# Altium footprint library linear.PCBLIB: 119 footprints (part 2 of 8)
Each footprint in its own frame and in the unit in brackets; x right, y up, seen from the top. Pads: shape width x height; smd on the part's side, far side on the other; paste and mask are expansions set on the pad; w line width, h text height; cw(c..) or ccw(c..) is an arc to the next point about the centre after c.
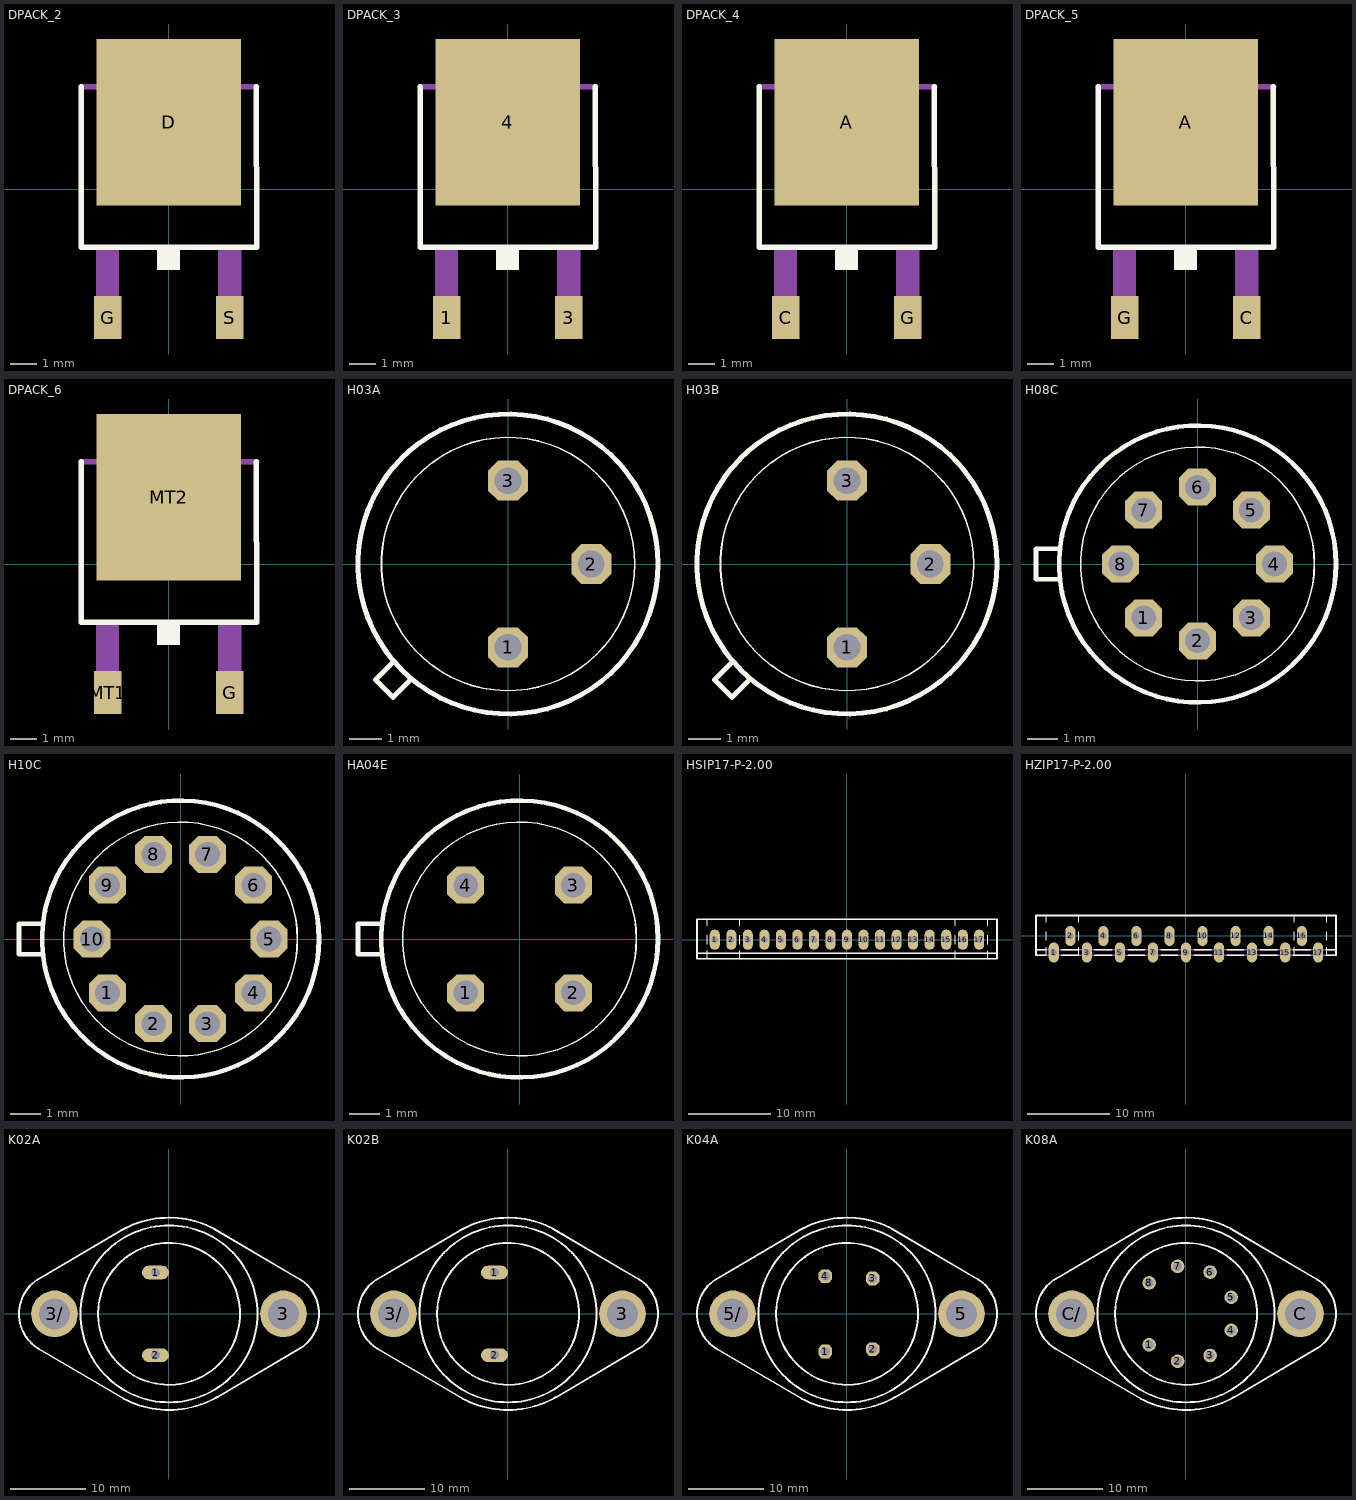
[diagram p1: the footprints below, top view; thin cyan lines are the x and y axes]

## DPACK_2 [mil]
pads (3):
  rect 213x245 smd: D(0,99)
  rect 40x63 smd: G(-89.76,-188.98) S(90,-188.98)
Top Overlay:
  rectangle: -17,-119 17,-89
  lines w8: -129,151 -129.02,-85 130,-85 129,151
Mechanical 16:
  rectangle: -107,-203 -73,-89
  rectangle: 73,-203 107,-89
  region: 0,0 10,0 10,10 0,10
  lines w8: -129.02,151 130,151 ; -101,155 -101,183 -83,201 83,201 101,183 101,155 -101,155

## DPACK_3 [mil]
pads (3):
  rect 40x63 smd: 1(-89.76,-188.98) 3(90,-188.98)
  rect 213x245 smd: 4(0,99)
Top Overlay:
  rectangle: -17,-119 17,-89
  lines w8: -129,151 -129.02,-85 130,-85 129,151
Mechanical 16:
  rectangle: -107,-203 -73,-89
  rectangle: 73,-203 107,-89
  region: 0,0 10,0 10,10 0,10
  lines w8: -129.02,151 130,151 ; -101,155 -101,183 -83,201 83,201 101,183 101,155 -101,155

## DPACK_4 [mil]
pads (3):
  rect 213x245 smd: A(0,99)
  rect 40x63 smd: C(-89.76,-188.98) G(90,-188.98)
Top Overlay:
  rectangle: -17,-119 17,-89
  lines w8: -129,151 -129.02,-85 130,-85 129,151
Mechanical 16:
  rectangle: -107,-203 -73,-89
  rectangle: 73,-203 107,-89
  region: 0,0 10,0 10,10 0,10
  lines w8: -129.02,151 130,151 ; -101,155 -101,183 -83,201 83,201 101,183 101,155 -101,155

## DPACK_5 [mil]
pads (3):
  rect 213x245 smd: A(0,99)
  rect 40x63 smd: C(90,-188.98) G(-89.76,-188.98)
Top Overlay:
  rectangle: -17,-119 17,-89
  lines w8: -129,151 -129.02,-85 130,-85 129,151
Mechanical 16:
  rectangle: -107,-203 -73,-89
  rectangle: 73,-203 107,-89
  region: 0,0 10,0 10,10 0,10
  lines w8: -129.02,151 130,151 ; -101,155 -101,183 -83,201 83,201 101,183 101,155 -101,155

## DPACK_6 [mil]
pads (3):
  rect 40x63 smd: G(90,-188.98) MT1(-89.76,-188.98)
  rect 213x245 smd: MT2(0,99)
Top Overlay:
  rectangle: -17,-119 17,-89
  lines w8: -129,151 -129.02,-85 130,-85 129,151
Mechanical 16:
  rectangle: -107,-203 -73,-89
  rectangle: 73,-203 107,-89
  region: 0,0 10,0 10,10 0,10
  lines w8: -129.02,151 130,151 ; -101,155 -101,183 -83,201 83,201 101,183 101,155 -101,155

## H03A [mil]
pads (3):
  oct 48x48 hole 32: 1(0,-100) 2(100,0) 3(0,100)
Top Overlay:
  circle w6: c0,0 r180
  circle w2: c0,0 r152
  lines w6: -138,-118 -159,-139 -138,-160 -117,-139

## H03B [mil]
pads (3):
  oct 48x48 hole 32: 1(0,-100) 2(100,0) 3(0,100)
Top Overlay:
  circle w6: c0,0 r180
  circle w2: c0,0 r152
  lines w6: -138,-118 -159,-139 -138,-160 -117,-139

## H08C [mil]
pads (8):
  oct 48x48 hole 32: 1(-70,-70) 2(0,-100) 3(70,-70) 4(100,0) 5(70,70) 6(0,100) 7(-70,70) 8(-100,0)
Top Overlay:
  circle w6: c0,0 r180
  circle w2: c0,0 r152
  lines w6: -180,-20 -210,-20 -210,20 -180,20

## H10C [mil]
pads (10):
  oct 48x48 hole 32: 1(-95,-70) 2(-35,-110) 3(35,-110) 4(95,-70) 5(115,0) 6(95,70) 7(35,110) 8(-35,110) 9(-95,70) 10(-115,0)
Top Overlay:
  circle w6: c0,0 r180
  circle w2: c0,0 r152
  lines w6: -180,-20 -210,-20 -210,20 -180,20

## HA04E [mil]
pads (4):
  oct 48x48 hole 32: 1(-70,-70) 2(70,-70) 3(70,70) 4(-70,70)
Top Overlay:
  circle w6: c0,0 r180
  circle w2: c0,0 r152
  lines w6: -180,-20 -210,-20 -210,20 -180,20

## HSIP17-P-2.00 [mil]
pads (17):
  oval 48x96 hole 32: 1(-629.92,0) 2(-551.18,0) 3(-472.44,0) 4(-393.7,0) 5(-314.96,0) 6(-236.22,0) 7(-157.48,0) 8(-78.74,0) 9(0,0) 10(79,0) 11(158,0) 12(237,0) 13(315,0) 14(394,0) 15(473,0) 16(552,0) 17(630,0)
Top Overlay:
  lines w4: -667.32,-88.58 -667.32,-53.15 ; -667.32,-20.67 -667.32,21 ; -667.32,66 -667.32,94 ; -513.78,-88.58 -513.78,-53.15 ; -513.78,-20.67 -513.78,21 ; -513.78,66 -513.78,94 ; 514,-88.58 514,-53.15 ; 514,-20.67 514,21 ; 514,66 514,94 ; 668,-88.58 668,-53.15 ; 668,-20.67 668,21 ; 668,66 668,94
  lines w8: -714.57,-64.96 -714.57,-91.54 715,-91.54 715,-64.96 ; -714.57,-64.96 -714.57,98 715,98 715,-64.96 ; -714.57,-64.96 715,-64.96

## HZIP17-P-2.00 [mil]
pads (17):
  oval 48x96 hole 32: 1(-629.92,-78.74) 2(-551.18,0) 3(-472.44,-78.74) 4(-393.7,0) 5(-314.96,-78.74) 6(-236.22,0) 7(-157.48,-78.74) 8(-78.74,0) 9(0,-78.74) 10(79,0) 11(158,-78.74) 12(237,0) 13(315,-78.74) 14(394,0) 15(473,-78.74) 16(552,0) 17(630,-78.74)
Top Overlay:
  lines w4: -667.32,-88.58 -667.32,-53.15 ; -667.32,-20.67 -667.32,21 ; -667.32,66 -667.32,94 ; -513.78,-88.58 -513.78,-53.15 ; -513.78,-20.67 -513.78,21 ; -513.78,66 -513.78,94 ; 514,-88.58 514,-53.15 ; 514,-20.67 514,21 ; 514,66 514,94 ; 668,-88.58 668,-53.15 ; 668,-20.67 668,21 ; 668,66 668,94
  lines w8: -669.29,-91.54 -714.57,-91.54 -714.57,-64.96 ; -669.29,-64.96 -714.57,-64.96 ; -590.55,-91.54 -511.81,-91.54 ; -590.55,-64.96 -511.81,-64.96 ; -433.07,-91.54 -354.33,-91.54 ; -433.07,-64.96 -354.33,-64.96 ; -275.59,-91.54 -196.85,-91.54 ; -275.59,-64.96 -196.85,-64.96 ; -118.11,-91.54 -39.37,-91.54 ; -118.11,-64.96 -39.37,-64.96 ; 40,-91.54 119,-91.54 ; 40,-64.96 119,-64.96 ; 197,-91.54 276,-91.54 ; 197,-64.96 276,-64.96 ; 355,-91.54 434,-91.54 ; 355,-64.96 434,-64.96 ; 512,-91.54 591,-91.54 ; 512,-64.96 591,-64.96 ; 670,-91.54 715,-91.54 715,-64.96 ; 670,-64.96 715,-64.96 ; -714.57,-64.96 -714.57,98 715,98 715,-64.96
Mechanical 16:
  lines w8: -714.57,-91.54 715,-91.54 ; -714.57,-64.96 715,-64.96

## K02A [mil]
pads (4):
  oval 141x70.5 hole 47: 1(-70,215) 2(-70,-215)
  round 243 hole 162: 3(595,0) 3/(-595,0)
Top Overlay:
  circle w10: c0,0 r369
  circle w10: c0,0 r460
  lines w10: -680,180 -250,433 ; -679,-181 -234,-442 ; -675.41,-183.35 cw(c-567,0) -780,0 cw(c-566.81,0.11) -672.94,185 ; -250.86,433 cw(c-0.9,0.24) 0,500 cw(c2,-1) 236,442 ; -235.3,-441.18 ccw(c0,0) 0,-500 ccw(c0.07,0.26) 251,-432.52 ; 235,441 684,178 ; 251,-433 684,-178 ; 683,-178.94 ccw(c567.23,-0.42) 780,0 ccw(c567.17,0.45) 683,179
Mechanical 16:
  circle w10: c595,0 r85
  circle w10: c-595,0 r85

## K02B [mil]
pads (4):
  oval 141x70.5 hole 47: 1(-70,215) 2(-70,-215)
  round 243 hole 162: 3(595,0) 3/(-595,0)
Top Overlay:
  circle w10: c0,0 r369
  circle w10: c0,0 r460
  lines w10: -680,180 -250,433 ; -679,-181 -234,-442 ; -675.41,-183.35 cw(c-567,0) -780,0 cw(c-566.81,0.11) -672.94,185 ; -250.86,433 cw(c-0.9,0.24) 0,500 cw(c2,-1) 236,442 ; -235.3,-441.18 ccw(c0,0) 0,-500 ccw(c0.07,0.26) 251,-432.52 ; 235,441 684,178 ; 251,-433 684,-178 ; 683,-178.94 ccw(c567.23,-0.42) 780,0 ccw(c567.17,0.45) 683,179
Mechanical 16:
  circle w10: c595,0 r85
  circle w10: c-595,0 r85

## K04A [mil]
pads (6):
  oct 70.5x70.5 hole 47: 1(-113.17,-195.75) 2(133,-183) 3(133,184) 4(-113.17,196)
  round 243 hole 162: 5(595,0) 5/(-595,0)
Top Overlay:
  circle w10: c0,0 r369
  circle w10: c0,0 r460
  lines w10: -680,180 -250,433 ; -679,-181 -234,-442 ; -675.41,-183.35 cw(c-567,0) -780,0 cw(c-566.81,0.11) -672.94,185 ; -250.86,433 cw(c-0.9,0.24) 0,500 cw(c2,-1) 236,442 ; -235.3,-441.18 ccw(c0,0) 0,-500 ccw(c0.07,0.26) 251,-432.52 ; 235,441 684,178 ; 251,-433 684,-178 ; 683,-178.94 ccw(c567.23,-0.42) 780,0 ccw(c567.17,0.45) 683,179
Mechanical 16:
  circle w10: c595,0 r85
  circle w10: c-595,0 r85

## K08A [mil]
pads (10):
  round 70.5 hole 47: 1(-191.51,-160.7) 2(-43.41,-246.2) 3(125,-216.51) 4(235,-85.5) 5(235,86) 6(125,217) 7(-43.41,247) 8(-191.51,161)
  round 243 hole 162: C(595,0) C/(-595,0)
Top Overlay:
  circle w10: c0,0 r369
  circle w10: c0,0 r460
  lines w10: -680,180 -250,433 ; -679,-181 -234,-442 ; -675.41,-183.35 cw(c-567,0) -780,0 cw(c-566.81,0.11) -672.94,185 ; -250.86,433 cw(c-0.9,0.24) 0,500 cw(c2,-1) 236,442 ; -235.3,-441.18 ccw(c0,0) 0,-500 ccw(c0.07,0.26) 251,-432.52 ; 235,441 684,178 ; 251,-433 684,-178 ; 683,-178.94 ccw(c567.23,-0.42) 780,0 ccw(c567.17,0.45) 683,179
Mechanical 16:
  circle w6: c595,0 r85
  circle w6: c-595,0 r85